# Altium footprint library EMG_Sensor.PcbLib: 18 footprints (part 1 of 2)
Each footprint in its own frame and in the unit in brackets; x right, y up, seen from the top. Pads: shape width x height; smd on the part's side, far side on the other; paste and mask are expansions set on the pad; w line width, h text height; cw(c..) or ccw(c..) is an arc to the next point about the centre after c.
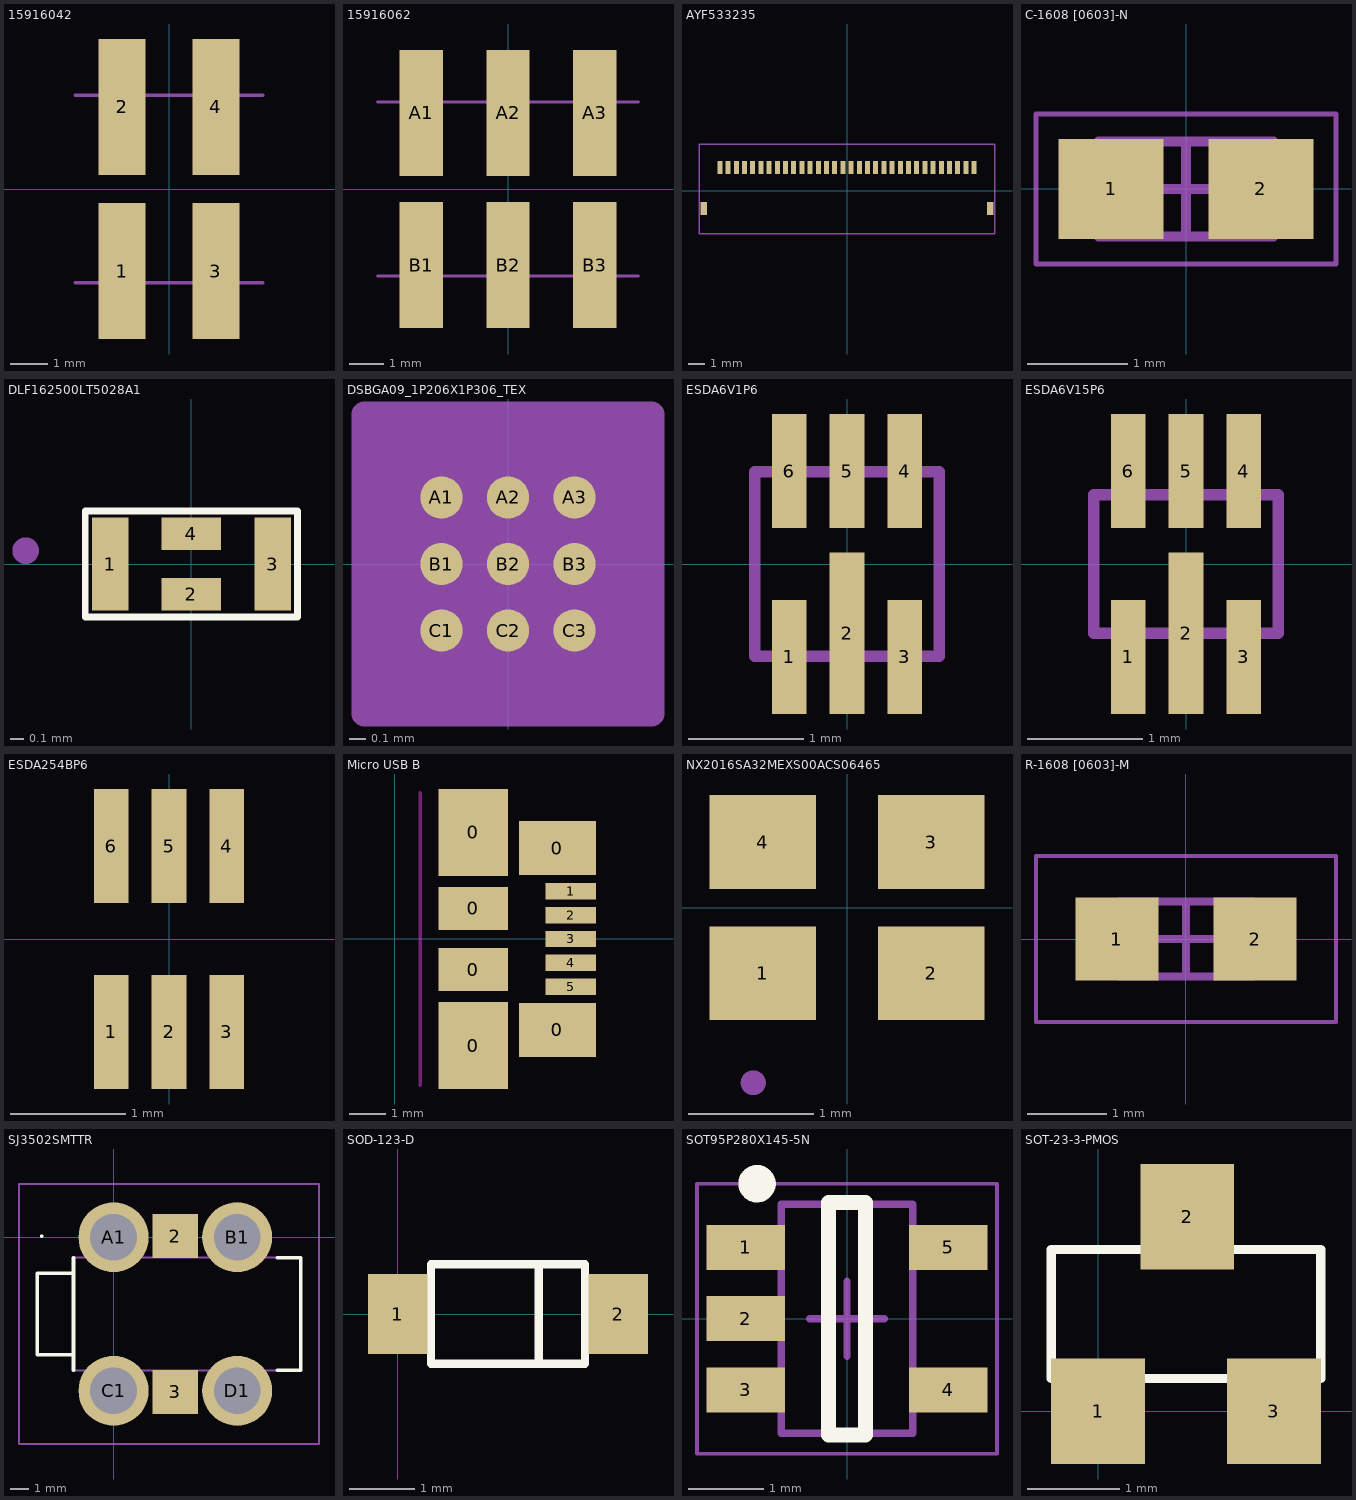
[diagram p0: the footprints below, top view; thin cyan lines are the x and y axes]

## 15916042 [mm]
pads (4):
  rect 1.27x3.68 smd: 1(-1.27,-2.22) 2(-1.27,2.22) 3(1.27,-2.22) 4(1.27,2.22)
Mechanical 15:
  lines w0.1: -2.54,-2.54 2.54,-2.54 ; -2.54,2.54 2.54,2.54
3D body "015916042.stp": height 9.65, standoff 0, extent -2.54,-3.492 2.54,3.492

## 15916062 [mm]
pads (6):
  rect 1.27x3.68 smd: A1(-2.54,2.22) A2(0,2.22) A3(2.54,2.22) B1(-2.54,-2.22) B2(0,-2.22) B3(2.54,-2.22)
Mechanical 15:
  lines w0.1: -3.81,-2.54 3.81,-2.54 ; -3.81,2.54 3.81,2.54
3D body "015916062.stp": height 9.65, standoff 0, extent -3.81,-3.492 3.81,3.492

## AYF533235 [mil]
pads (34):
  rect 11.81x31.5 smd: 1(-304.84,56.69) 2(-285.43,56.69) 3(-265.75,56.69) 4(-246.06,56.69) 5(-226.38,56.69) 6(-206.69,56.69) 7(-187.01,56.69) 8(-167.32,56.69) 9(-147.64,56.69) 10(-127.95,56.69) 11(-108.27,56.69) 12(-88.58,56.69) 13(-68.9,56.69) 14(-49.21,56.69) 15(-29.53,56.69) 16(-9.84,56.69) 17(9.84,56.69) 18(29.53,56.69) 19(49.21,56.69) 20(68.9,56.69) 21(88.58,56.69) 22(108.27,56.69) 23(127.95,56.69) 24(147.64,56.69) 25(167.32,56.69) 26(187.01,56.69) 27(206.69,56.69) 28(226.38,56.69) 29(246.06,56.69) 30(265.75,56.69) 31(285.43,56.69) 32(304.84,56.69)
  rect 15.75x31.5 smd: MP1(-344.35,-41.73) MP2(344.35,-41.73)
Mechanical 15:
  lines w3.94: -355,-102.36 355,-102.36 355,111.81 -355,111.81 -355,-102.36
3D body "ayf533235-closed.step": height 39.37, standoff 0, extent -354.33,-67 354.33,78.67

## C-1608 [0603]-N [mm] "Chip Capacitor, 2-Leads, Body 1,60x0,80mm, IPC Medium Density"
height 0.85
pads (2):
  rect 1.05x1 smd: 1(-0.75,0) 2(0.75,0)
Mechanical 13:
  lines w0.1: -0.875,-0.475 0.875,-0.475 0.875,0.475 -0.875,0.475 -0.875,-0.475
Mechanical 15:
  lines w0.05: -1.5,-0.75 1.5,-0.75 1.5,0.75 -1.5,0.75 -1.5,-0.75
  lines w0.1: -0.475,0 0.475,0 ; 0,-0.475 0,0.475
3D body: height 0.85, standoff 0, extent 0.525,-0.475 0.875,0.475
3D body: height 0.85, standoff 0, extent -0.875,-0.475 -0.525,0.475
3D body: height 0.85, standoff 0, extent -0.525,-0.475 0.525,0.475

## DLF162500LT5028A1 [mm]
pads (4):
  rect 0.275x0.7 smd: 1(-0.612,0) 3(0.613,0)
  rect 0.45x0.245 smd: 2(0,-0.227) 4(0,0.227)
Top Overlay:
  lines w0.051: -0.8,-0.4 -0.8,0.4 0.8,0.4 0.8,-0.4 -0.8,-0.4
Mechanical 7:
  lines w0.1: -1.3,0.1 cw(c-1.25,0.1) -1.2,0.1 cw(c-1.25,0.1) -1.3,0.1

## DSBGA09_1P206X1P306_TEX [mil]
pads (9):
  round 10 smd paste+0 mask+0: A1(-15.75,15.75) A2(0,15.75) A3(15.75,15.75) B1(-15.75,0) B2(0,0) B3(15.75,0) C1(-15.75,-15.75) C2(0,-15.75) C3(15.75,-15.75)
Mechanical 13:
  lines w1: -24,17.63 -16.13,25.5 ; -24,-25.5 24,-25.5 24,25.5 -24,25.5 -24,12.75 -24,-12.75 -24,-25.5
Mechanical 15:
  region: 34,-35.5 -34,-35.5 -34,35.5 34,35.5
  lines w6: -34,-35.5 -34,35.5 34,35.5 34,-35.5 -34,-35.5
3D body "DSBGA09_1P206X1P306_TEX.step": height 25.12, standoff 0, extent -24.02,-25.51 24.02,25.51

## ESDA6V1P6 [mm]
pads (6):
  rect 0.3x0.99 smd: 1(-0.5,-0.805) 3(0.5,-0.805) 4(0.5,0.805) 5(0,0.805) 6(-0.5,0.805)
  rect 0.3x1.4 smd: 2(0,-0.6)
Mechanical 15:
  lines w0.1: -0.8,-0.8 -0.8,0.8 0.8,0.8 0.8,-0.8 -0.8,-0.8
3D body "ESDA6V1-5P6.stp": height 0.72, standoff 0, extent -0.8,-1.27 0.8,1.27

## ESDA6V15P6 [mm]
pads (6):
  rect 0.3x0.99 smd: 1(-0.5,-0.805) 3(0.5,-0.805) 4(0.5,0.805) 5(0,0.805) 6(-0.5,0.805)
  rect 0.3x1.4 smd: 2(0,-0.6)
Mechanical 15:
  lines w0.1: -0.8,-0.6 0.8,-0.6 0.8,0.6 -0.8,0.6 -0.8,-0.6
3D body "ESDA6V1-5P6.stp": height 0.72, standoff 0, extent -0.8,-1.27 0.8,1.27

## ESDA254BP6 [mm]
pads (6):
  rect 0.3x0.99 smd: 1(-0.5,-0.805) 2(0,-0.805) 3(0.5,-0.805) 4(0.5,0.805) 5(0,0.805) 6(-0.5,0.805)

## Micro USB B [mm] "Micro USB B Molex 47346-0001"
pads (11):
  rect 1.9x2.375 smd: 0(2.15,-2.913) 0(2.15,2.913)
  rect 1.9x1.175 smd: 0(2.15,-0.837) 0(2.15,0.837)
  rect 2.1x1.475 smd: 0(4.45,-2.485) 0(4.45,2.485)
  rect 1.38x0.45 smd: 1(4.81,1.3) 2(4.81,0.65) 3(4.81,0) 4(4.81,-0.65) 5(4.81,-1.3)
Top Solder:
  rectangle: 3.08,-3.33 3.6,-1.64
  rectangle: 1.1,-2.14 3.21,1.97
  rectangle: 3.03,1.65 3.39,3.33
Keep-Out Layer:
  lines w0.1: 0.7,-4 0.7,4
3D body "473460001.stp": height 2.72, standoff -0.22, extent -0.25,-3.99 5.18,3.99

## NX2016SA32MEXS00ACS06465 [mm]
pads (4):
  rect 0.85x0.75 smd: 1(-0.675,-0.525) 2(0.675,-0.525) 3(0.675,0.525) 4(-0.675,0.525)
Mechanical 7:
  lines w0.1: -0.8,-1.4 cw(c-0.75,-1.4) -0.7,-1.4 cw(c-0.75,-1.4) -0.8,-1.4
3D body "NX2016SA-32M-EXS00A-CS06465.stp": height 0.45, standoff -0.01, extent -1,-0.826 1,0.775

## R-1608 [0603]-M [mm] "Chip Resistor, 2-Leads, Body 1,60x0,83mm, IPC Low Density"
height 0.6
pads (2):
  rect 1.05x1.05 smd: 1(-0.875,0) 2(0.875,0)
Mechanical 13:
  lines w0.1: -0.85,-0.475 -0.85,0.475 0.85,0.475 0.85,-0.475 -0.85,-0.475
Mechanical 15:
  lines w0.05: -1.9,-1.05 -1.9,1.05 1.9,1.05 1.9,-1.05 -1.9,-1.05
  lines w0.1: -0.475,0 0.475,0 ; 0,-0.475 0,0.475
3D body: height 0.6, standoff 0, extent -0.57,-0.475 0.57,0.475
3D body: height 0.6, standoff 0, extent -0.85,-0.475 -0.57,0.475
3D body: height 0.6, standoff 0, extent 0.57,-0.475 0.85,0.475

## SJ3502SMTTR [mm]
pads (6):
  rect 2.5x2.43 smd: 2(3.4,0.06) 3(3.4,-8.51)
  round 3.855 hole 2.57: A1(0,0) B1(6.8,0) C1(0,-8.45) D1(6.8,-8.45)
Top Overlay:
  lines w0.1: -4,0.06 ccw(c-3.95,0.06) -3.9,0.06 ccw(c-3.95,0.06) -4,0.06
  lines w0.2: -2.2,-7.325 -2.2,-1.125 ; -2.2,-6.475 -4.2,-6.475 -4.2,-1.975 -2.2,-1.975 ; 9,-7.325 10.3,-7.325 10.3,-1.125 9,-1.125
Mechanical 15:
  lines w0.1: -2.2,-6.475 -4.2,-6.475 -4.2,-1.975 -2.2,-1.975 ; -2.2,-7.325 10.3,-7.325 10.3,-1.125 -2.2,-1.125 -2.2,-7.325
Mechanical 20:
  lines w0.1: -5.2,-11.377 11.3,-11.377 11.3,2.928 -5.2,2.928 -5.2,-11.377

## SOD-123-D [mil]
pads (2):
  rect 36x48 smd: 1(0,0) 2(133,0)
Top Overlay:
  lines w5: 20,-20 0,-20 0,20 20,20 ; 85,-30 85,30 ; 113,-20 133,-20 133,20 113,20 ; 20,-30 113,-30 113,30 100,30 20,30 20,0 20,-30
3D body "PMEG3015EH.stp": height 43.31, standoff 0, extent -2.9,-31.99 134.9,31

## SOT95P280X145-5N [mm] "SOT23, 5-Leads, Body 2,90x2,80mm, Pitch 0,95mm, IPC Medium Density"
height 1.45
pads (5):
  rect 1.05x0.6 smd: 1(-1.35,0.95) 2(-1.35,0) 3(-1.35,-0.95) 4(1.35,-0.95) 5(1.35,0.95)
Top Overlay:
  circle w0.25: c-1.2,1.8 r0.125
  lines w0.2: -0.25,-1.55 -0.25,1.55 0.25,1.55 0.25,-1.55 -0.25,-1.55
Top Solder:
  rectangle: -1.98,-1.35 -0.72,1.35
Mechanical 13:
  lines w0.1: -0.875,-1.525 0.875,-1.525 0.875,1.525 -0.875,1.525 -0.875,-1.525
Mechanical 15:
  lines w0.05: -2,-1.8 2,-1.8 2,1.8 -2,1.8 -2,-1.8
  lines w0.1: -0.5,0 0.5,0 ; 0,-0.5 0,0.5
3D body: height 1.45, standoff 0.15, extent -0.875,-1.525 0.875,1.525

## SOT-23-3-PMOS [mil]
pads (3):
  rect 40x45 smd: 1(0,0) 2(38,83) 3(75,0)
Top Overlay:
  lines w4: -20,14 -20,69 95,69 95,14 -20,14